# Altium footprint library Components - 12.02.20 - 19.48.PcbLib: 2 footprints
Each footprint in its own frame and in the unit in brackets; x right, y up, seen from the top. Pads: shape width x height; smd on the part's side, far side on the other; paste and mask are expansions set on the pad; w line width, h text height; cw(c..) or ccw(c..) is an arc to the next point about the centre after c.
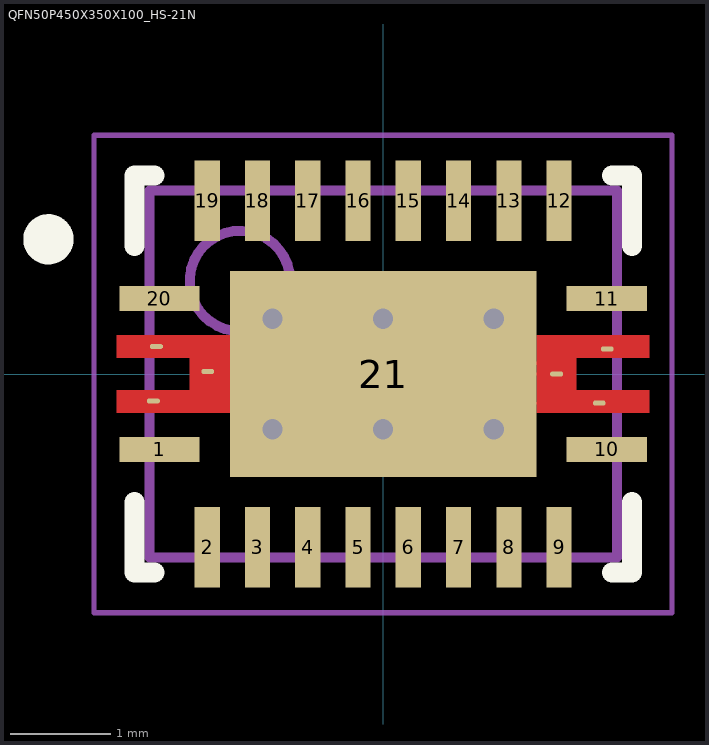
[diagram p0: the footprints below, top view; thin cyan lines are the x and y axes]

## PCBComponent_1 [mm]

## QFN50P450X350X100_HS-21N [mm] "QFN, 20-Leads, Body 4.50x3.50mm, Pitch 0.50mm/1.50mm, Thermal Pad 3.05x2.05mm, IPC Medium Density"
height 1
pads (27):
  rect 0.8x0.25 smd: 1(-2.225,-0.75) 10(2.225,-0.75) 11(2.225,0.75)
  rect 0.25x0.8 smd: 2(-1.75,-1.725) 3(-1.25,-1.725) 4(-0.75,-1.725) 5(-0.25,-1.725) 6(0.25,-1.725) 7(0.75,-1.725) 8(1.25,-1.725) 9(1.75,-1.725) 12(1.75,1.725) 13(1.25,1.725) 14(0.75,1.725) 15(0.25,1.725) 16(-0.25,1.725) 17(-0.75,1.725) 18(-1.25,1.725) 19(-1.75,1.725)
  rect 0.8x0.25 smd mask+0.07: 20(-2.225,0.75)
  oct 0.127x0.051 smd: 21(-2.285,-0.27) 21(-2.255,0.275) 21(-1.745,0.025) 21(1.725,0) 21(2.15,-0.29) 21(2.23,0.25)
  rect 3.05x2.05 smd paste-1: 21(0,0)
via -1.1,0.55 diameter 0.5 hole 0.2
via 0,0.55 diameter 0.5 hole 0.2
via 1.1,0.55 diameter 0.5 hole 0.2
via -1.1,-0.55 diameter 0.5 hole 0.2
via 0,-0.55 diameter 0.5 hole 0.2
via 1.1,-0.55 diameter 0.5 hole 0.2
Top Layer:
  rectangle: -2.65,0.16 -1.525,0.39
  rectangle: -1.925,-0.16 -1.525,0.16
  rectangle: -2.65,-0.39 -1.525,-0.16
  region: 2.65,-0.16 1.525,-0.16 1.525,-0.39 2.65,-0.39
  region: 2.65,0.39 1.525,0.39 1.525,0.16 2.65,0.16
  region: 1.925,0.16 1.525,0.16 1.525,-0.16 1.925,-0.16
  lines w0.025: 1.725,0 0,0 ; 2.15,-0.29 0.29,-0.29 0.24,-0.24 -0.275,0.275 -0.54,0.01 -0.01,0.01 0,0 ; 2.23,0.25 1.665,0.25 1.415,0 0,0
Top Overlay:
  circle w0.25: c-3.33,1.34 r0.125
  lines w0.2: -2.475,-1.275 -2.475,-1.975 -2.275,-1.975 ; -2.475,1.275 -2.475,1.975 -2.275,1.975 ; 2.275,-1.975 2.475,-1.975 2.475,-1.275 ; 2.275,1.975 2.475,1.975 2.475,1.275
Top Paste:
  rectangle: -1.47,0.15 -0.15,0.97
  rectangle: 0.15,-0.97 1.47,-0.15
  rectangle: 0.15,0.15 1.47,0.97
  rectangle: -1.47,-0.97 -0.15,-0.15
  rectangle: -2.625,0.16 -1.725,0.39
  rectangle: -2.625,-0.39 -1.725,-0.16
  rectangle: 1.725,0.155 2.625,0.39
  rectangle: 1.725,-0.39 2.625,-0.16
Mechanical 13:
  circle w0.1: c-1.425,0.925 r0.5
  lines w0.1: -2.325,-1.825 -2.325,1.825 2.325,1.825 2.325,-1.825 -2.325,-1.825
Mechanical 15:
  lines w0.05: -2.875,-2.375 -2.875,2.375 2.875,2.375 2.875,-2.375 -2.875,-2.375
  lines w0.1: 0,-0.5 0,0.5
3D body "QFN50P450X350X100_HS-21N.step": height 1, standoff 0, extent -2.326,-1.826 2.326,1.826